# EAGLE library part 7142DG (library MikeDesigns)
irfs7530-7ppbf superimposed on a 7142DG Heatsink Pins are spaced for a 6 pin layout. 0.05 pitch. The pads have been made slightly larger for soldering ease
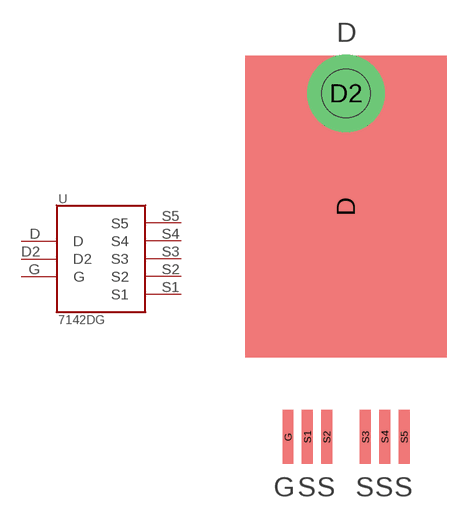
[diagram p2: symbol with the pads of 7142DG; footprint 7142DG]

Designator prefix -

## 7142DG  [7142DG]
D  D
D2  D2
G  G  pwr
S1  S1
S2  S2
S3  S3
S4  S4
S5  S5

## Footprint 7142DG (pad centres in mm)
irfs7530-7ppbf superimposed on a 7142DG Heatsink Pins are spaced for a 6 pin layout. 0.05 pitch. The pads have been made slightly larger for soldering ease
smd 13.208 x 19.812: D 0,0
drill 3.175 pad 5.08: D2 0,7.429
smd 0.711 x 3.556: G -3.81,-15.126; S1 -2.54,-15.126; S2 -1.27,-15.126; S3 1.27,-15.126; S4 2.54,-15.126; S5 3.81,-15.126
hole 3.175 at 0,7.429